# Altium footprint library 388D_Control_v1.PcbLib: 60 footprints (part 2 of 4)
Each footprint in its own frame and in the unit in brackets; x right, y up, seen from the top. Pads: shape width x height; smd on the part's side, far side on the other; paste and mask are expansions set on the pad; w line width, h text height; cw(c..) or ccw(c..) is an arc to the next point about the centre after c.
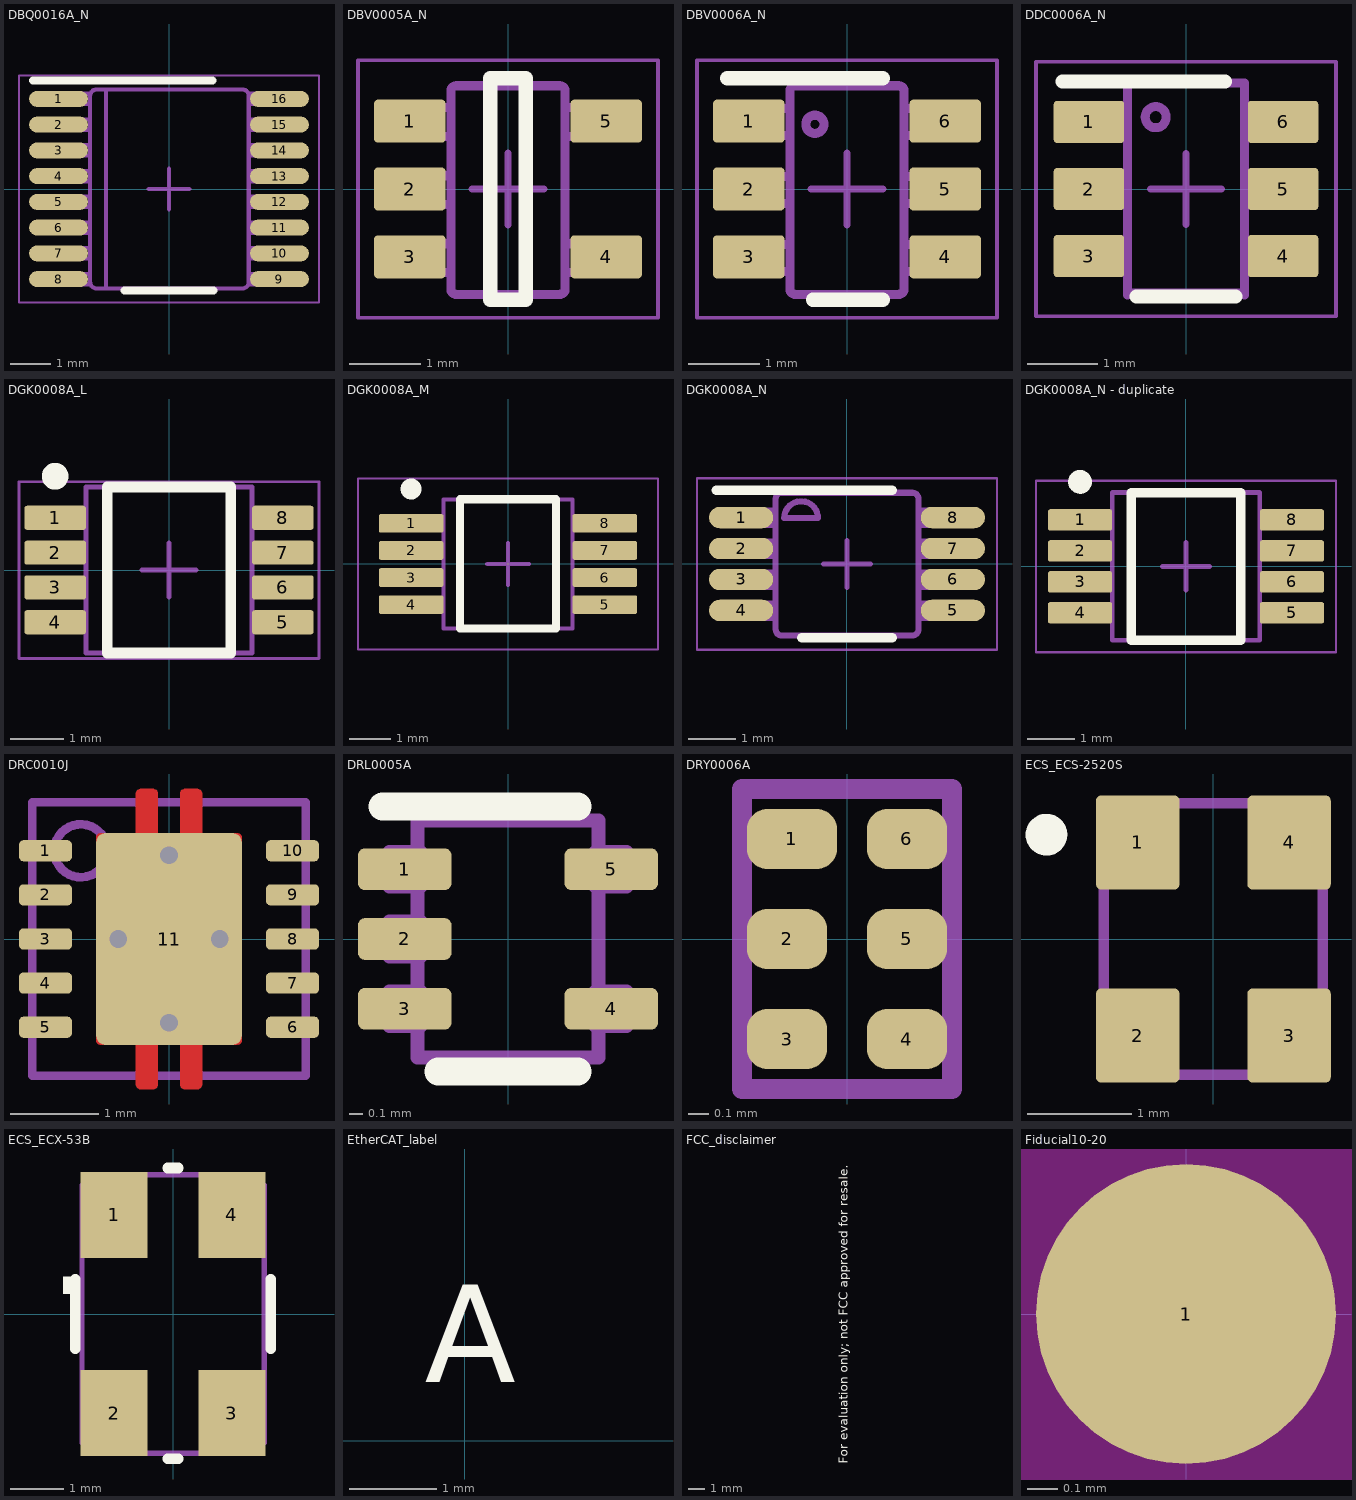
[diagram p1: the footprints below, top view; thin cyan lines are the x and y axes]

## DBQ0016A_N [mm]
pads (16):
  oval 1.45x0.4 smd: 1(-2.725,2.222) 2(-2.725,1.587) 3(-2.725,0.953) 4(-2.725,0.318) 5(-2.725,-0.318) 6(-2.725,-0.953) 7(-2.725,-1.587) 8(-2.725,-2.222) 9(2.725,-2.222) 10(2.725,-1.587) 11(2.725,-0.953) 12(2.725,-0.318) 13(2.725,0.318) 14(2.725,0.953) 15(2.725,1.587) 16(2.725,2.222)
Top Overlay:
  lines w0.2: -3.35,2.675 1.075,2.675 ; -1.1,-2.5 1.1,-2.5
Mechanical 5:
  drawing of 209 lines, arcs and shapes, not listed
  text ".Designator" at -0.5,1.875 h1.02
Mechanical 15:
  lines w0.05: -3.7,-2.8 -3.7,2.8 3.7,2.8 3.7,-2.8 -3.7,-2.8
  lines w0.1: -0.5,0 0.5,0 ; 0,-0.5 0,0.5
3D body "DBQ0016A.stp": height 1.63, standoff 0, extent -3.011,-2.451 3.011,2.451

## DBV0005A_N [mm]
pads (5):
  rrect17% 1x0.6 smd: 1(-1.375,0.95) 2(-1.375,0) 3(-1.375,-0.95) 4(1.375,-0.95) 5(1.375,0.95)
Top Overlay:
  lines w0.2: -0.25,-1.55 0.25,-1.55 0.25,1.55 -0.25,1.55 -0.25,-1.55
Mechanical 5:
  lines w0.127: -0.801,1.371 cw(c-0.725,1.37) -0.725,1.446 ; -0.801,1.37 -0.801,-1.399 -0.801,-1.4 ccw(c-0.725,-1.399) -0.725,-1.475 ; -0.801,1.37 -0.801,1.371 ; -0.725,-1.475 0.723,-1.475 0.724,-1.475 ccw(c0.723,-1.399) 0.799,-1.4 0.799,-1.399 0.799,1.37 ; -0.725,-1.475 -0.725,-1.475 ; -0.725,1.446 -0.725,1.446 ; -0.725,1.446 0.723,1.446 0.724,1.446 cw(c0.723,1.37) 0.799,1.371 ; 0.799,1.37 0.799,1.371 ; -1.423,-1.167 -1.199,-1.167 -1.105,-1.167 -1.088,-1.167 -0.835,-1.167 -0.801,-1.167 -0.801,-0.767 -0.835,-0.767 -1.088,-0.767 -1.105,-0.767 -1.199,-0.767 -1.423,-0.767 -1.423,-1.167 ; -1.423,-0.215 -1.199,-0.215 -1.105,-0.215 -1.088,-0.215 -0.835,-0.215 -0.801,-0.215 -0.801,0.186 -0.835,0.186 -1.088,0.186 -1.105,0.186 -1.199,0.186 -1.423,0.186 -1.423,-0.215 ; -1.423,0.738 -1.199,0.738 -1.105,0.738 -1.088,0.738 -0.835,0.738 -0.801,0.738 -0.801,1.138 -0.835,1.138 -1.088,1.138 -1.105,1.138 -1.199,1.138 -1.423,1.138 -1.423,0.738 ; 0.799,-1.167 0.799,-0.767 0.834,-0.767 1.087,-0.767 1.103,-0.767 1.198,-0.767 1.422,-0.767 1.422,-1.167 1.198,-1.167 1.103,-1.167 1.087,-1.167 0.834,-1.167 0.799,-1.167 ; 0.799,0.738 0.799,1.138 0.834,1.138 1.087,1.138 1.103,1.138 1.198,1.138 1.422,1.138 1.422,0.738 1.198,0.738 1.103,0.738 1.087,0.738 0.834,0.738 0.799,0.738
  text ".Designator" at -0.25,0.95 h0.51
Mechanical 15:
  lines w0.05: -2.1,-1.8 2.1,-1.8 2.1,1.8 -2.1,1.8 -2.1,-1.8
  lines w0.1: -0.5,0 0.5,0 ; 0,-0.5 0,0.5
3D body "DBV0005A.stp": height 1.09, standoff 0, extent -1.422,-1.461 1.423,1.46

## DBV0006A_N [mm]
pads (6):
  rrect17% 1x0.6 smd: 1(-1.375,0.95) 2(-1.375,0) 3(-1.375,-0.95) 4(1.375,-0.95) 5(1.375,0) 6(1.375,0.95)
Top Overlay:
  lines w0.2: -1.675,1.55 0.5,1.55 ; -0.475,-1.55 0.5,-1.55
Mechanical 5:
  lines w0.127: 0.724,-1.475 ccw(c0.723,-1.399) 0.8,-1.399 0.8,1.37 ccw(c0.723,1.37) 0.724,1.446 ; 0.723,-1.475 -0.724,-1.475 -0.725,-1.475 cw(c-0.724,-1.399) -0.801,-1.399 -0.801,1.37 cw(c-0.724,1.37) -0.725,1.446 -0.724,1.446 0.723,1.446 ; 0.723,-1.475 0.724,-1.475 ; 0.723,1.446 0.724,1.446 ; -1.423,-1.154 -1.423,-0.78 -1.206,-0.78 -1.113,-0.78 -1.081,-0.78 -0.828,-0.78 -0.801,-0.78 -0.801,-1.154 -0.828,-1.154 -1.081,-1.154 -1.113,-1.154 -1.206,-1.154 -1.423,-1.154 ; -1.423,-0.202 -1.423,0.173 -1.206,0.173 -1.113,0.173 -1.081,0.173 -0.828,0.173 -0.801,0.173 -0.801,-0.202 -0.828,-0.202 -1.081,-0.202 -1.113,-0.202 -1.206,-0.202 -1.423,-0.202 ; -1.423,0.751 -1.206,0.751 -1.113,0.751 -1.081,0.751 -0.828,0.751 -0.801,0.751 -0.801,1.125 -0.828,1.125 -1.081,1.125 -1.113,1.125 -1.206,1.125 -1.423,1.125 -1.423,0.751 ; -0.577,0.906 cw(c-0.45,0.906) -0.323,0.906 cw(c-0.45,0.906) -0.577,0.906 ; 0.8,-1.154 0.8,-0.78 0.827,-0.78 1.08,-0.78 1.112,-0.78 1.205,-0.78 1.422,-0.78 1.422,-1.154 1.205,-1.154 1.112,-1.154 1.08,-1.154 0.827,-1.154 0.8,-1.154 ; 0.8,-0.202 0.827,-0.202 1.08,-0.202 1.112,-0.202 1.205,-0.202 1.422,-0.202 1.422,0.173 1.205,0.173 1.112,0.173 1.08,0.173 0.827,0.173 0.8,0.173 0.8,-0.202 ; 0.8,0.751 0.8,1.125 0.827,1.125 1.08,1.125 1.112,1.125 1.205,1.125 1.422,1.125 1.422,0.751 1.205,0.751 1.112,0.751 1.08,0.751 0.827,0.751 0.8,0.751
  text ".Designator" at 0.274,-0.872 h0.51
Mechanical 15:
  lines w0.05: -2.1,-1.8 -2.1,1.8 2.1,1.8 2.1,-1.8 -2.1,-1.8
  lines w0.1: -0.5,0 0.5,0 ; 0,-0.5 0,0.5
3D body "DBV0006A.stp": height 1.12, standoff 0, extent -1.422,-1.461 1.423,1.46

## DDC0006A_N [mm]
pads (6):
  rrect17% 1x0.6 smd: 1(-1.375,0.95) 2(-1.375,0) 3(-1.375,-0.95) 4(1.375,-0.95) 5(1.375,0) 6(1.375,0.95)
Top Overlay:
  lines w0.2: -1.75,1.525 0.55,1.525 ; -0.7,-1.524 0.7,-1.524
Mechanical 5:
  lines w0.127: -0.828,-1.5 -0.828,1.5 0.828,1.5 0.828,-1.5 ; -0.825,-1.165 -1.437,-1.165 -1.437,-0.735 -0.825,-0.735 ; -0.825,-0.215 -1.437,-0.215 -1.437,0.215 -0.825,0.215 ; -0.825,0.735 -1.437,0.735 -1.437,1.165 -0.825,1.165 ; -0.754,-1.47 -0.75,-1.47 0.743,-1.47 0.747,-1.47 ; -0.754,1.5 -0.75,1.5 ; 0.743,1.5 0.747,1.5 ; 0.825,-1.165 1.437,-1.165 1.437,-0.735 0.825,-0.735 ; 0.825,-0.215 1.437,-0.215 1.437,0.215 0.825,0.215 ; 0.825,0.735 1.437,0.735 1.437,1.165 0.825,1.165 ; -0.578,1.018 cw(c-0.43,1.018) -0.281,1.018 cw(c-0.43,1.018) -0.578,1.018
  text ".Designator" at -0.246,2.641 h0.51
Mechanical 15:
  lines w0.05: -2.125,-1.8 2.125,-1.8 2.125,1.8 -2.125,1.8 -2.125,-1.8
  lines w0.1: -0.5,0 0.5,0 ; 0,-0.5 0,0.5
3D body "DDC0006A.stp": height 0.92, standoff 0, extent -1.434,-1.485 1.434,1.485

## DGK0008A_L [mm] "TSOP, 8-Leads, Body 3.1x3.1mm, Pitch 0.65mm, IPC High Density"
height 1.1
pads (8):
  rrect22% 1.15x0.45 smd: 1(-2.125,0.975) 2(-2.125,0.325) 3(-2.125,-0.325) 4(-2.125,-0.975) 5(2.125,-0.975) 6(2.125,-0.325) 7(2.125,0.325) 8(2.125,0.975)
Top Overlay:
  circle w0.25: c-2.125,1.75 r0.125
  lines w0.2: -1.15,-1.55 1.15,-1.55 1.15,1.55 -1.15,1.55 -1.15,-1.55
Mechanical 1:
  text ".Designator" at -1.397,-0.254 h0.7
Mechanical 13:
  lines w0.1: -1.55,-1.55 1.55,-1.55 1.55,1.55 -1.55,1.55 -1.55,-1.55
Mechanical 15:
  lines w0.05: -2.8,-1.65 2.8,-1.65 2.8,1.65 -2.8,1.65 -2.8,-1.65
  lines w0.1: -0.5,0 0.5,0 ; 0,-0.5 0,0.5
3D body "MUY08A_ASM.stp": height 0.94, standoff -0.02, extent -2.451,-1.499 2.451,1.499

## DGK0008A_M [mm] "TSOP, 8-Leads, Body 3.1x3.1mm, Pitch 0.65mm, IPC Low Density"
height 1.1
pads (8):
  rrect22% 1.55x0.45 smd: 1(-2.325,0.975) 2(-2.325,0.325) 3(-2.325,-0.325) 4(-2.325,-0.975) 5(2.325,-0.975) 6(2.325,-0.325) 7(2.325,0.325) 8(2.325,0.975)
Top Overlay:
  circle w0.25: c-2.325,1.8 r0.125
  lines w0.2: -1.15,-1.55 1.15,-1.55 1.15,1.55 -1.15,1.55 -1.15,-1.55
Mechanical 1:
  text ".Designator" at -1.397,-0.254 h0.7
Mechanical 13:
  lines w0.1: -1.55,-1.55 1.55,-1.55 1.55,1.55 -1.55,1.55 -1.55,-1.55
Mechanical 15:
  lines w0.05: -3.6,-2.05 3.6,-2.05 3.6,2.05 -3.6,2.05 -3.6,-2.05
  lines w0.1: -0.5,0 0.5,0 ; 0,-0.5 0,0.5
3D body "MUY08A_ASM.stp": height 0.94, standoff -0.02, extent -2.451,-1.499 2.451,1.499

## DGK0008A_N [mm]
pads (8):
  oval 1.35x0.45 smd: 1(-2.225,0.975) 2(-2.225,0.325) 3(-2.225,-0.325) 4(-2.225,-0.975) 5(2.225,-0.975) 6(2.225,-0.325) 7(2.225,0.325) 8(2.225,0.975)
Top Overlay:
  lines w0.2: -2.75,1.55 0.95,1.55 ; -0.95,-1.55 0.95,-1.55
Mechanical 5:
  lines w0.127: -2.45,-1.131 -2.21,-1.131 -2.091,-1.131 -2.087,-1.131 -1.784,-1.131 -1.498,-1.131 -1.498,-0.826 -1.784,-0.826 -2.087,-0.826 -2.091,-0.826 -2.21,-0.826 -2.45,-0.826 -2.45,-1.131 ; -2.45,-0.48 -2.21,-0.48 -2.091,-0.48 -2.087,-0.48 -1.784,-0.48 -1.498,-0.48 -1.498,-0.175 -1.784,-0.175 -2.087,-0.175 -2.091,-0.175 -2.21,-0.175 -2.45,-0.175 -2.45,-0.48 ; -2.45,0.17 -2.45,0.475 -2.21,0.475 -2.091,0.475 -2.087,0.475 -1.784,0.475 -1.498,0.475 -1.498,0.17 -1.784,0.17 -2.087,0.17 -2.091,0.17 -2.21,0.17 -2.45,0.17 ; -2.45,0.82 -2.21,0.82 -2.091,0.82 -2.087,0.82 -1.784,0.82 -1.498,0.82 -1.498,1.125 -1.784,1.125 -2.087,1.125 -2.091,1.125 -2.21,1.125 -2.45,1.125 -2.45,0.82 ; -1.497,-1.377 ccw(c-1.37,-1.374) -1.373,-1.501 -1.371,-1.501 1.373,-1.501 1.375,-1.501 ccw(c1.373,-1.374) 1.5,-1.377 1.5,-1.374 1.5,1.369 1.5,1.372 ccw(c1.373,1.369) 1.375,1.496 1.373,1.496 -1.371,1.496 -1.373,1.496 ccw(c-1.37,1.369) -1.497,1.372 -1.498,1.369 -1.498,-1.374 -1.497,-1.377 ; -1.32,0.962 cw(c-0.964,0.962) -0.609,0.962 -1.32,0.962 ; 1.5,-1.131 1.5,-0.826 1.786,-0.826 2.089,-0.826 2.093,-0.826 2.213,-0.826 2.452,-0.826 2.452,-1.131 2.213,-1.131 2.093,-1.131 2.089,-1.131 1.786,-1.131 1.5,-1.131 ; 1.5,-0.48 1.5,-0.175 1.786,-0.175 2.089,-0.175 2.093,-0.175 2.213,-0.175 2.452,-0.175 2.452,-0.48 2.213,-0.48 2.093,-0.48 2.089,-0.48 1.786,-0.48 1.5,-0.48 ; 1.5,0.17 1.5,0.475 1.786,0.475 2.089,0.475 2.093,0.475 2.213,0.475 2.452,0.475 2.452,0.17 2.213,0.17 2.093,0.17 2.089,0.17 1.786,0.17 1.5,0.17 ; 1.5,0.82 1.5,1.125 1.786,1.125 2.089,1.125 2.093,1.125 2.213,1.125 2.452,1.125 2.452,0.82 2.213,0.82 2.093,0.82 2.089,0.82 1.786,0.82 1.5,0.82
  text ".Designator" at -1.15,-0.3 h0.64
Mechanical 15:
  lines w0.05: -3.15,-1.8 3.15,-1.8 3.15,1.8 -3.15,1.8 -3.15,-1.8
  lines w0.1: -0.5,0 0.5,0 ; 0,-0.5 0,0.5
3D body "DGK0008A.stp": height 0.96, standoff 0, extent -2.451,-1.499 2.451,1.499

## DGK0008A_N - duplicate [mm] "TSOP, 8-Leads, Body 3.1x3.1mm, Pitch 0.65mm, IPC Medium Density"
height 1.1
pads (8):
  rrect22% 1.35x0.45 smd: 1(-2.225,0.975) 2(-2.225,0.325) 3(-2.225,-0.325) 4(-2.225,-0.975) 5(2.225,-0.975) 6(2.225,-0.325) 7(2.225,0.325) 8(2.225,0.975)
Top Overlay:
  circle w0.25: c-2.225,1.775 r0.125
  lines w0.2: -1.15,-1.55 1.15,-1.55 1.15,1.55 -1.15,1.55 -1.15,-1.55
Mechanical 1:
  text ".Designator" at -1.397,-0.254 h0.7
Mechanical 13:
  lines w0.1: -1.55,-1.55 1.55,-1.55 1.55,1.55 -1.55,1.55 -1.55,-1.55
Mechanical 15:
  lines w0.05: -3.15,-1.8 3.15,-1.8 3.15,1.8 -3.15,1.8 -3.15,-1.8
  lines w0.1: -0.5,0 0.5,0 ; 0,-0.5 0,0.5
3D body "MUY08A_ASM.stp": height 0.94, standoff -0.02, extent -2.451,-1.499 2.451,1.499

## DRC0010J [mm]
pads (11):
  rrect42% 0.6x0.24 smd: 1(-1.4,1) 2(-1.4,0.5) 3(-1.4,0) 4(-1.4,-0.5) 5(-1.4,-1) 6(1.4,-1) 7(1.4,-0.5) 8(1.4,0) 9(1.4,0.5) 10(1.4,1)
  rrect12% 1.65x2.4 smd paste-1 mask-2: 11(0,0)
via -0.575,0 diameter 0.5 hole 0.2
via 0,0.95 diameter 0.5 hole 0.2
via 0,-0.95 diameter 0.5 hole 0.2
via 0.575,0 diameter 0.5 hole 0.2
Top Layer:
  region: -0.375,-1.65 -0.375,-1.2 -0.775,-1.2 -0.785,-1.2 -0.803,-1.192 -0.817,-1.178 -0.825,-1.16 -0.825,-1.15 -0.825,1.15 -0.825,1.16 -0.817,1.178 -0.803,1.192 -0.785,1.2 -0.775,1.2 -0.375,1.2 -0.375,1.65 -0.375,1.66 -0.367,1.678 -0.353,1.692 -0.335,1.7 -0.325,1.7 -0.175,1.7 -0.165,1.7 -0.147,1.692 -0.133,1.678 -0.125,1.66 -0.125,1.65 -0.125,1.2 0.125,1.2 0.125,1.65 0.125,1.66 0.133,1.678 0.147,1.692 0.165,1.7 0.175,1.7 0.325,1.7 0.335,1.7 0.353,1.692 0.367,1.678 0.375,1.66 0.375,1.65 0.375,1.2 0.775,1.2 0.785,1.2 0.803,1.192 0.817,1.178 0.825,1.16 0.825,1.15 0.825,-1.15 0.825,-1.16 0.817,-1.178 0.803,-1.192 0.785,-1.2 0.775,-1.2 0.375,-1.2 0.375,-1.65 0.375,-1.66 0.367,-1.678 0.353,-1.692 0.335,-1.7 0.325,-1.7 0.175,-1.7 0.165,-1.7 0.147,-1.692 0.133,-1.678 0.125,-1.66 0.125,-1.65 0.125,-1.2 -0.125,-1.2 -0.125,-1.65 -0.125,-1.66 -0.133,-1.678 -0.147,-1.692 -0.165,-1.7 -0.175,-1.7 -0.325,-1.7 -0.335,-1.7 -0.353,-1.692 -0.367,-1.678 -0.375,-1.66
Top Paste:
  drawing of 6 lines, arcs and shapes, not listed
Mechanical 5:
  circle w0.1: c-1,1 r0.3
  lines w0.1: -1.55,-1.55 -1.55,1.55 1.55,1.55 1.55,-1.55 -1.55,-1.55
  text ".Designator" at -1.4,-0.425 h0.76
3D body "DRC0010J.stp": height 1, standoff 0, extent -1.5,-1.5 1.5,1.5

## DRL0005A [mm]
pads (5):
  rrect33% 0.67x0.3 smd: 1(-0.74,0.5) 2(-0.74,0) 3(-0.74,-0.5) 4(0.74,-0.5) 5(0.74,0.5)
Top Overlay:
  lines w0.2: -0.9,0.95 0.5,0.95 ; -0.5,-0.95 0.5,-0.95
Mechanical 5:
  lines w0.1: -0.65,-0.625 -0.65,-0.85 0.65,-0.85 0.65,-0.625 ; -0.65,-0.375 -0.65,-0.125 ; -0.65,0.125 -0.65,0.375 ; -0.65,0.625 -0.65,0.85 0.65,0.85 0.65,0.625 ; 0.65,-0.375 0.65,0.375 ; -0.85,-0.625 -0.85,-0.375 -0.627,-0.375 -0.627,-0.625 -0.85,-0.625 ; -0.85,-0.125 -0.85,0.125 -0.627,0.125 -0.627,-0.125 -0.85,-0.125 ; -0.85,0.375 -0.85,0.625 -0.627,0.625 -0.627,0.375 -0.85,0.375 ; 0.627,-0.625 0.627,-0.375 0.85,-0.375 0.85,-0.625 0.627,-0.625 ; 0.627,0.375 0.85,0.375 0.85,0.625 0.627,0.625 0.627,0.375
  text ".Designator" at -0.15,0.7 h0.65
3D body "DRL0005A.stp": height 0.62, standoff 0.02, extent -0.85,-0.85 0.85,0.85

## DRY0006A [mm]
pads (6):
  rrect67% 0.45x0.3 smd paste-0.05 mask-0.05: 1(-0.275,0.5)
  rrect67% 0.4x0.3 smd paste-0.05 mask-0.05: 2(-0.3,0) 3(-0.3,-0.5) 4(0.3,-0.5) 5(0.3,0) 6(0.3,0.5)
Mechanical 5:
  circle w0.05: c-0.325,0.5 r0.1
  lines w0.1: -0.525,-0.75 -0.525,0.75 0.525,0.75 0.525,-0.75 -0.525,-0.75
  text ".Designator" at -0.075,0.575 h0.3
3D body "DRY0006A.stp": height 0.58, standoff 0, extent -0.5,-0.725 0.5,0.725

## ECS_ECS-2520S [mm]
pads (4):
  rrect12% 0.8x0.9 smd: 1(-0.725,0.925) 2(-0.725,-0.925) 3(0.725,-0.925) 4(0.725,0.925)
Top Overlay:
  circle w0.2: c-1.6,1 r0.1
Mechanical 5:
  circle w0.1: c-0.6,0.8 r0.141
  lines w0.1: -1.05,-1.3 -1.05,1.3 1.05,1.3 1.05,-1.3 -1.05,-1.3
  text ".Designator" at -0.9,-0.2 h0.45
3D body: height 1, standoff 0, extent -1.049,-1.299 1.049,1.299
3D body: height 1, standoff 0.6, extent -0.741,0.659 -0.459,0.941

## ECS_ECX-53B [mm]
pads (4):
  rect 1.25x1.6 smd: 1(-1.1,1.85) 2(-1.1,-1.85) 3(1.1,-1.85) 4(1.1,1.85)
Top Overlay:
  rectangle: -2.05,0.375 -1.9,0.7
  lines w0.2: -1.825,-0.65 -1.825,0.65 ; -0.1,-2.7 0.1,-2.7 ; -0.1,2.725 0.1,2.725 ; 1.825,-0.65 1.825,0.65
Mechanical 5:
  circle w0.1: c-1.15,1.975 r0.3
  lines w0.1: -1.7,-2.4 cw(c-1.7,-2.6) -1.5,-2.6 1.5,-2.6 cw(c1.7,-2.6) 1.7,-2.4 1.7,2.4 cw(c1.7,2.6) 1.5,2.6 -1.5,2.6 cw(c-1.7,2.6) -1.7,2.4 -1.7,-2.4
  text ".Designator" at -0.8,-0.2 h0.51
3D body: height 0.86, standoff 0.8, extent -1.449,1.676 -0.851,2.274
3D body: height 0.85, standoff 0, extent -1.701,-2.601 1.701,2.601

## EtherCAT_label [mm]
Top Overlay:
  text "A" at -0.46,0.305 h1.91

## FCC_disclaimer [mm]
Top Overlay:
  text "For evaluation only; not FCC approved for resale." at -43.632,4.199 h0.94

## Fiducial10-20 [mm]
pads (1):
  round 1 smd mask+0.5: 1(0,0)
Top Layer keep-out:
  circle w1.178: c0,0 r0.5